# EAGLE library part DIN_2*32 (library DIN41612_Femelle)
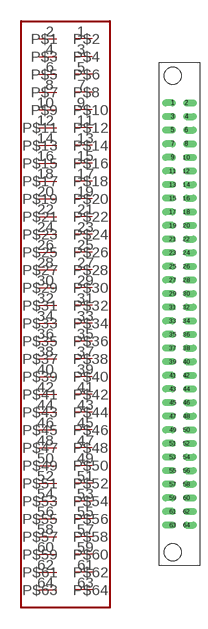
[diagram p0: symbol with the pads of PIN_2X32; footprint PIN_2X32]

Designator prefix -

## DIN_232  [PIN_2X32]
1  P$1
2  P$2
3  P$3
4  P$4
5  P$5
6  P$6
7  P$7
8  P$8
9  P$9
10  P$10
11  P$11
12  P$12
13  P$13
14  P$14
15  P$15
16  P$16
17  P$17
18  P$18
19  P$19
20  P$20
21  P$21
22  P$22
23  P$23
24  P$24
25  P$25
26  P$26
27  P$27
28  P$28
29  P$29
30  P$30
31  P$31
32  P$32
33  P$33
34  P$34
35  P$35
36  P$36
37  P$37
38  P$38
39  P$39
40  P$40
41  P$41
42  P$42
43  P$43
44  P$44
45  P$45
46  P$46
47  P$47
48  P$48
49  P$49
50  P$50
51  P$51
52  P$52
53  P$53
54  P$54
55  P$55
56  P$56
57  P$57
58  P$58
59  P$59
60  P$60
61  P$61
62  P$62
63  P$63
64  P$64

## Footprint PIN_2X32 (pad centres in mm)
drill 0.8 offset: 1 0,48.26; 2 2.54,48.26; 3 0,45.72; 4 2.54,45.72; 5 0,43.18; 6 2.54,43.18; 7 0,40.64; 8 2.54,40.64; 9 0,38.1; 10 2.54,38.1; 11 0,35.56; 12 2.54,35.56; 13 0,33.02; 14 2.54,33.02; 15 0,30.48; 16 2.54,30.48; 17 0,27.94; 18 2.54,27.94; 19 0,25.4; 20 2.54,25.4; 21 0,22.86; 22 2.54,22.86; 23 0,20.32; 24 2.54,20.32; 25 0,17.78; 26 2.54,17.78; 27 0,15.24; 28 2.54,15.24; 29 0,12.7; 30 2.54,12.7; 31 0,10.16; 32 2.54,10.16; 33 0,7.62; 34 2.54,7.62; 35 0,5.08; 36 2.54,5.08; 37 0,2.54; 38 2.54,2.54; 39 0,0; 40 2.54,0; 41 0,-2.54; 42 2.54,-2.54; 43 0,-5.08; 44 2.54,-5.08; 45 0,-7.62; 46 2.54,-7.62; 47 0,-10.16; 48 2.54,-10.16; 49 0,-12.7; 50 2.54,-12.7; 51 0,-15.24; 52 2.54,-15.24; 53 0,-17.78; 54 2.54,-17.78; 55 0,-20.32; 56 2.54,-20.32; 57 0,-22.86; 58 2.54,-22.86; 59 0,-25.4; 60 2.54,-25.4; 61 0,-27.94; 62 2.54,-27.94; 63 0,-30.48; 64 2.54,-30.48
hole 3.2 at 0,-35.56
hole 3.2 at 0,53.34